# Altium schematic symbol library Schlib1.SchLib: 11 symbols
Pins are listed as number, name and electrical type; pins without a type are passive.

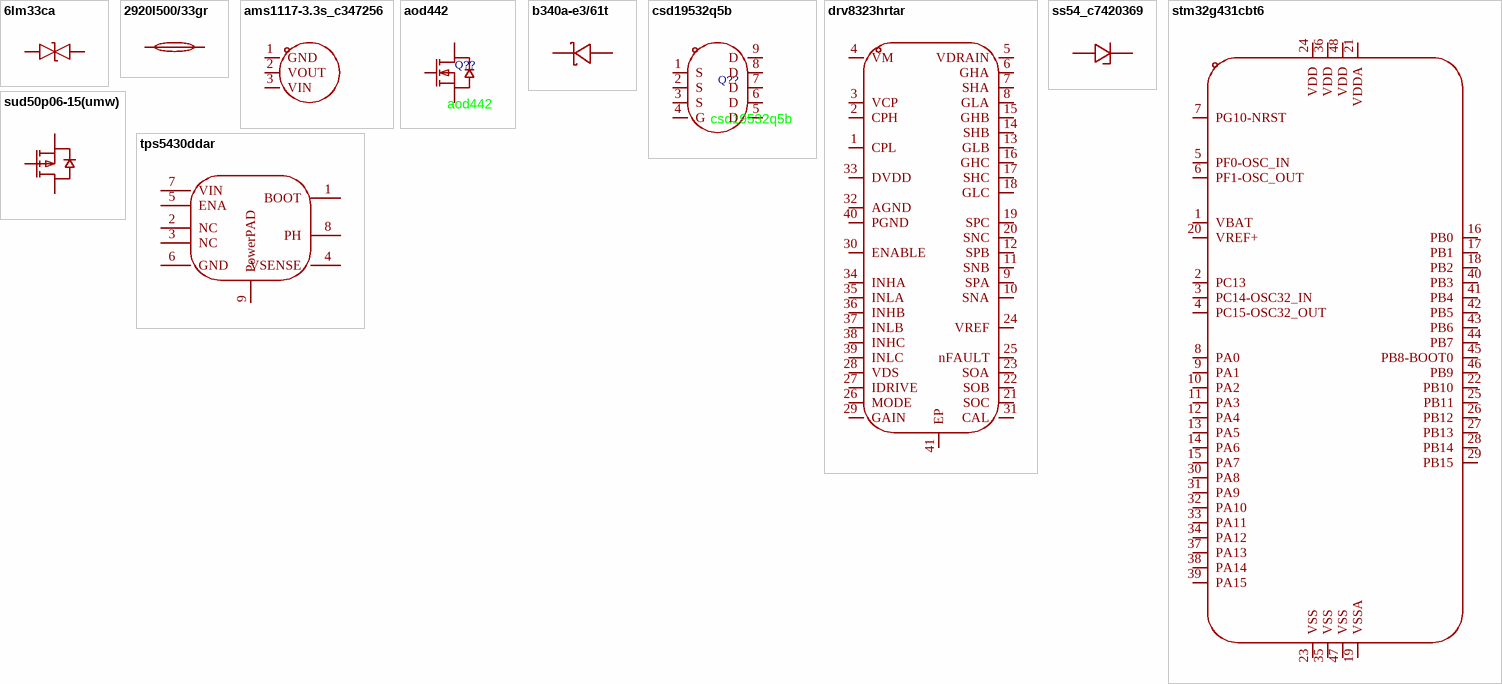
[diagram p0: symbols 6lm33ca to tps5430ddar]

## 6lm33ca
designator D??  (value not drawn)
Manufacturer: Leiditech(雷卯电子); AddInBom: yes; ModelId: 5cfb9fa8428548fca5ac9f51208ec219; ModelName: SMBF_L4.3-W3.6-LS5.3-BI; ModelTransform: 210.63,142.5194,0,0,0,0,0,0,0; Symbol: 6LM33CA; LCSC Part Name: 低Vc瞬态电压抑制器，适用于多种应用，具有玻璃钝化或平面结、出色钳位能力等特性; SupplierPart: C53114808; ManufacturerPart: 6LM33CA; Supplier Footprint: SMB(DO-214AA); JLCPCB Part Class: Extended Part; Datasheet: https://item.szlcsc.com/datasheet/6LM33CA/56092828.html; Supplier: LCSC; ConvertToPcb: yes; FootprintName: SMBF_L4.3-W3.6-LS5.3-BI
footprint SMBF_L4.3-W3.6-LS5.3-BI
footprint 6LM33CA (双向TVS)
pins: 1, 2

## 2920l500/33gr
designator F??  (value not drawn)
耐压(Vmax):33V;最大电流(Imax):40A;保持电流(Ihold):5A;跳闸电流(Itrip):10A;; Manufacturer: LUTE(陆特); AddInBom: yes; ModelId: c20979b6eed84fe694c25fdbe1326c05; ModelName: F2920-1; ModelTransform: 289.7632,201.5744,0,0,0,0,0,0,0; Voltage - Max: 33V; Current - Max: 40A; Hold Current: 5A; Trip Current: 10A; Power Dissipation: 2.5W; Resistance - Initial (Ri) (Min): 5mΩ; Resistance - Post Trip (R1) (Max): 31mΩ; Time to Trip(Max): 5s; Symbol: 2920L500/33GR; LCSC Part Name: 33V 5.00A 2920 自恢复; SupplierPart: C48985881; ManufacturerPart: 2920L500/33GR; Supplier Footprint: 2920; JLCPCB Part Class: Extended Part; Datasheet: https://item.szlcsc.com/datasheet/2920L500%252F33GR/51318605.html; Supplier: LCSC; ConvertToPcb: yes; FootprintName: F2920; Operating Temperature: -40℃~+85℃
footprint F2920
pins: 1, 2

## ams1117-3.3s_c347256
designator U??  (value not drawn)
输出极性:正极;工作电压:18V;输出电压:3.3V;输出电流:1A;电源纹波抑制比(PSRR):60dB@(120Hz);输出类型:固定;; Manufacturer: UMW(友台半导体); Symbol: AMS1117-3.3_C347256; AddInBom: yes; ModelId: 6db690b7897d4d18a30d90c1b89525ee; ModelName: SOT-89-3_L4.3-W2.5-H1.6-LS4.1-P1.50; ModelTransform: 161.417,169.291,0,180,0,0,-11.808,0,0; Output Configuration: 正极; Voltage - Supply: 18V; Output Voltage: 3.3V; Output Current: 1A; Voltage Dropout: 1.3V@(1A); standby current: 5mA; Noise: 0.003%Vout; Output Type: 固定; Number of Outputs: 1; LCSC Part Name: 3.3V 1A 18V; SupplierPart: C347256; ManufacturerPart: AMS1117-3.3S; Supplier Footprint: SOT-89; JLCPCB Part Class: Extended Part; Datasheet: https://item.szlcsc.com/datasheet/AMS1117-3.3S/323916.html; Supplier: LCSC; ConvertToPcb: yes; FootprintName: SOT-89-3_L4.5-W2.5-P1.50-LS4.2-BR; Power Supply Rejection Ratio (PSRR): 60dB@(120Hz); Features: 过流保护; Operating Temperature: -40℃~+125℃
footprint SOT-89-3_L4.5-W2.5-P1.50-LS4.2-BR
footprint ASM1117-3.3V
pins: 1 GND, 2 VOUT, 3 VIN

## aod442
designator Q??
数量:1个N沟道;漏源电压(Vdss):60V;连续漏极电流(Id):37A;导通电阻(RDS(on)):25mΩ@4.5V,20A;耗散功率(Pd):60W;阈值电压(Vgs(th)):2.7V;; Manufacturer: AOS; AddInBom: yes; ModelId: b30bfce30d0f4a429b5e4d5ada8cad65; ModelName: TO-252-3_L6.5-W5.8-P4.58-BL; ModelTransform: 249.9995,380.57715,0,0,0,0,0,38.779,0; Number: 1个N沟道; Drain to Source Voltage: 60V; Current - Continuous Drain(Id): 37A; Pd - Power Dissipation: 60W; Gate Threshold Voltage (Vgs(th)): 2.7V; Gate Charge(Qg): 68nC@10V; Input Capacitance(Ciss): 2.3nF@30V; Reverse Transfer Capacitance (Crss@Vds): 165pF@30V; Symbol: AOD442; LCSC Part Name: 1个N沟道 耐压:60V 电流:37A; SupplierPart: C87617; ManufacturerPart: AOD442; Supplier Footprint: TO-252-2(DPAK); JLCPCB Part Class: Extended Part; Datasheet: https://item.szlcsc.com/datasheet/AOD442/88795.html; Supplier: LCSC; ConvertToPcb: yes; FootprintName: TO-252-3_L6.5-W5.8-P4.58-BL; RDS(on): 25mΩ@4.5V,20A; Operating Temperature: -55℃~+175℃
footprint TO-252-3_L6.5-W5.8-P4.58-BL
footprint AOD442
pins: 1 G, 2 D, 3 S

## b340a-e3/61t
designator D??  (value not drawn)
正向压降(Vf):550mV@3A;直流反向耐压(Vr):40V;整流电流:3A;; Manufacturer: VISHAY(威世); AddInBom: yes; ModelId: e3551acb3c5a4975a5e9d36087fe1fa2; ModelName: SMA_L4.3-W2.6-LS5.2-RD; ModelTransform: 185.039,102.362,0,0,0,0,0,0,0; Voltage - DC Reverse(Vr): 40V; Current - Rectified: 3A; Reverse Leakage Current (Ir): 500uA@40V; Operating Junction Temperature Range: -65℃~+150℃; Non-Repetitive Peak Forward Surge Current: 65A; Symbol: B340A-E3/61T; LCSC Part Name: 电压:40V 电流:3A; SupplierPart: C15570; ManufacturerPart: B340A-E3/61T; Supplier Footprint: SMA(DO-214AC); JLCPCB Part Class: Extended Part; Datasheet: https://item.szlcsc.com/datasheet/B340A-E3%252F61T/16249.html; Supplier: LCSC; ConvertToPcb: yes; FootprintName: SMA_L4.3-W2.6-LS5.2-RD; Voltage - Forward(Vf@If): 550mV@3A
footprint SMA_L4.3-W2.6-LS5.2-RD
footprint SMA_L4.3-W2.6-LS5.2-RD
pins: 1 K, 2 A

## csd19532q5b
designator Q??
数量:-;漏源电压(Vdss):100V;连续漏极电流(Id):100A;导通电阻(RDS(on)):4.6mΩ@6V,17A;耗散功率(Pd):195W;阈值电压(Vgs(th)):2.6V;; Manufacturer: TI(德州仪器); AddInBom: yes; ModelId: 37244444be64495d8a7e9078c2813e17; ModelName: SON-8_L5.0-W6.0-P1.27-BL-1; ModelTransform: 204.724,240.157,0,0,0,0,0,1.968,0; Drain to Source Voltage: 100V; Current - Continuous Drain(Id): 100A; Pd - Power Dissipation: 195W; Gate Threshold Voltage (Vgs(th)): 2.6V; Gate Charge(Qg): 48nC@10V; Input Capacitance(Ciss): 4.81nF@50V; Reverse Transfer Capacitance (Crss@Vds): 18pF@50V; Type: N沟道; Output Capacitance(Coss): 706pF; Symbol: CSD19532Q5B; LCSC Part Name: 耐压:100V 电流:100A; SupplierPart: C473333; ManufacturerPart: CSD19532Q5B; Supplier Footprint: SON-8(5x6); JLCPCB Part Class: Extended Part; Datasheet: https://www.ti.com/cn/lit/gpn/csd19532q5b; Supplier: LCSC; ConvertToPcb: yes; FootprintName: SON-8_L5.0-W6.0-P1.27-BL-1; Number: -; RDS(on): 4.6mΩ@6V,17A; Operating Temperature: -55℃~+150℃; Configuration: -
footprint SON-8_L5.0-W6.0-P1.27-BL-1
footprint CSD19532Q5B (N-Mos)
pins: 1 S, 2 S, 3 S, 4 G, 5 D, 6 D, 7 D, 8 D, 9 D

## drv8323hrtar
designator U??  (value not drawn)
DRV8323 具有电流分流放大器的最大 65V 三相智能栅极驱动器; Manufacturer: TI(德州仪器); AddInBom: yes; ModelId: 462395c9b4394dd8ac3680d491deb075; ModelName: QFN-40_L6.0-W6.0-H0.8-P0.50; ModelTransform: 237.007,237.007,0,90,0,0,-0.003,0.003,0; Drive Type: 三相; Integrated FETs: 否; Number of Half Bridges: 3; Quiescent Current(Iq): 12uA; Interface: SPI; Symbol: DRV8323HRTAR; LCSC Part Name: 5mA 无刷直流BLDC电机驱动芯片 60V; SupplierPart: C701783; ManufacturerPart: DRV8323HRTAR; Supplier Footprint: WQFN-40-EP(6x6); JLCPCB Part Class: Extended Part; Datasheet: https://www.ti.com/cn/lit/gpn/drv8323; Supplier: LCSC; ConvertToPcb: yes; FootprintName: QFN-40_L6.0-W6.0-P0.50-BL-EP4.5; Output Current: -; Peak Current: -; Voltage - Supply: -; RDS(on): -; Operating Temperature: -40℃~+125℃
footprint QFN-40_L6.0-W6.0-P0.50-BL-EP4.5
footprint DRV8323HRTAR
pins: 1 CPL, 2 CPH, 3 VCP, 4 VM, 5 VDRAIN, 6 GHA, 7 SHA, 8 GLA, 9 SPA, 10 SNA, 11 SNB, 12 SPB, 13 GLB, 14 SHB, 15 GHB, 16 GHC, 17 SHC, 18 GLC, 19 SPC, 20 SNC, 21 SOC, 22 SOB, 23 SOA, 24 VREF, 25 nFAULT, 26 MODE, 27 IDRIVE, 28 VDS, 29 GAIN, 30 ENABLE, 31 CAL, 32 AGND, 33 DVDD, 34 INHA, 35 INLA, 36 INHB, 37 INLB, 38 INHC, 39 INLC, 40 PGND, 41 EP

## ss54_c7420369
designator D??  (value not drawn)
二极管配置:独立式;正向压降(Vf):550mV@5A;直流反向耐压(Vr):40V;整流电流:5A;; Manufacturer: R+O(宏嘉诚); ManufacturerPart: SS54; AddInBom: yes; ModelId: 7e24bebe6cd74171ae8c9de6fc5b78aa; ModelName: SMA_L4.3-W2.6-LS5.0-FD; ModelTransform: 198.4248,103.5431,0,180,0,0,-0.001,0,0; Diode Configuration: 独立式; Voltage - DC Reverse(Vr): 40V; Current - Rectified: 5A; Reverse Leakage Current (Ir): 50uA@40V; Operating Junction Temperature Range: -55℃~+125℃; Non-Repetitive Peak Forward Surge Current: 120A; Symbol: SS54_C7420369; LCSC Part Name: 电压:40V 电流:5A; SupplierPart: C7420369; Supplier Footprint: SMA(DO-214AC); JLCPCB Part Class: Extended Part; Datasheet: https://item.szlcsc.com/datasheet/SS54/8397191.html; Supplier: LCSC; ConvertToPcb: yes; FootprintName: SMA_L4.3-W2.6-LS5.0-FD; Voltage - Forward(Vf@If): 550mV@5A
footprint SMA_L4.3-W2.6-LS5.0-FD
footprint SMA_L4.3-W2.6-LS5.0-FD
pins: 1 A, 2 K

## stm32g431cbt6
designator U??  (value not drawn)
CPU内核:ARM-M系列;CPU最大主频:170MHz;应用领域:-;; Manufacturer: ST(意法半导体); AddInBom: yes; ModelId: 093be70396ff421eb2cdb946d5311efc; ModelName: LQFP-48_L7.0-W7.0-H1.4-LS9.0-P0.50; ModelTransform: 354.331,354.331,0,0,0,0,0,0,0; CPU Maximum Speed: 170MHz; Program Storage Size: 128KB; Program Memory Type: FLASH; Number of I/O: 38; ADC (Bit): 12bit; Voltage - Supply: 1.71V~3.6V; Symbol: STM32G431CBT6; LCSC Part Name: 带DSP和FPU的170MHz主流ARM Cortex-M4 MCU，具有128 KB Flash存储器、数学加速器和中等模拟电平集成; SupplierPart: C529355; ManufacturerPart: STM32G431CBT6; Supplier Footprint: LQFP-48(7x7); JLCPCB Part Class: Extended Part; Datasheet: https://item.szlcsc.com/datasheet/STM32G431CBT6/549633.html; Supplier: LCSC; ConvertToPcb: yes; FootprintName: LQFP-48_L7.0-W7.0-P0.50-LS9.0-BL; CPU Core: ARM-M系列; DAC (Bit): 12bit; Applications: -
footprint LQFP-48_L7.0-W7.0-P0.50-LS9.0-BL
footprint STM32G431CBT6
pins: 1 VBAT, 2 PC13, 3 PC14-OSC32_IN, 4 PC15-OSC32_OUT, 5 PF0-OSC_IN, 6 PF1-OSC_OUT, 7 PG10-NRST, 8 PA0, 9 PA1, 10 PA2, 11 PA3, 12 PA4, 13 PA5, 14 PA6, 15 PA7, 16 PB0, 17 PB1, 18 PB2, 19 VSSA, 20 VREF+, 21 VDDA, 22 PB10, 23 VSS, 24 VDD, 25 PB11, 26 PB12, 27 PB13, 28 PB14, 29 PB15, 30 PA8, 31 PA9, 32 PA10, 33 PA11, 34 PA12, 35 VSS, 36 VDD, 37 PA13, 38 PA14, 39 PA15, 40 PB3, 41 PB4, 42 PB5, 43 PB6, 44 PB7, 45 PB8-BOOT0, 46 PB9, 47 VSS, 48 VDD

## sud50p06-15(umw)
designator Q??  (value not drawn)
漏源电压(Vdss):60V;连续漏极电流(Id):50A;导通电阻(RDS(on)):12mΩ@10V;耗散功率(Pd):2.5W;阈值电压(Vgs(th)):1.8V@250uA;; Manufacturer: UMW(友台半导体); AddInBom: yes; ModelId: ce57f84d66384067af8a68020b6de06d; ModelName: TO-252-2L-3P_L6.6-W6.1-H2.3-LS10.1-P4.6; ModelTransform: 259.842,390.52442,0,270,0,0,39.372,0.002,0; Drain to Source Voltage: 60V; Current - Continuous Drain(Id): 50A; Pd - Power Dissipation: 2.5W; Gate Charge(Qg): 110nC@10V; Input Capacitance(Ciss): 4.95nF@25V; Reverse Transfer Capacitance (Crss@Vds): 405pF@25V; Type: P沟道; Symbol: SUD50P06-15(UMW); LCSC Part Name: P沟道 耐压:60V 电流:50A; SupplierPart: C7503186; ManufacturerPart: SUD50P06-15(UMW); Supplier Footprint: TO-252; JLCPCB Part Class: Extended Part; Datasheet: https://item.szlcsc.com/datasheet/SUD50P06-15(UMW)/8592057.html; Supplier: LCSC; ConvertToPcb: yes; FootprintName: TO-252-2_L6.6-W6.1-P4.58-LS9.9-TL; RDS(on): 12mΩ@10V; Gate Threshold Voltage (Vgs(th)): 1.8V@250uA; Operating Temperature: -55℃~+150℃
footprint TO-252-2_L6.6-W6.1-P4.58-LS9.9-TL
footprint SUD50P06-15 (P-MOS)
pins: 1 G, 2 D, 3 S

## tps5430ddar
designator U??  (value not drawn)
功能类型:降压型;工作电压:5.5V~36V;输出电压:1.221V~32.04V;输出电流:3A;输出类型:可调;; Manufacturer: TI(德州仪器); AddInBom: yes; ModelId: 821ddb58f3244ffb9a5d6f8174c5b14e; ModelName: ESOP-8_L4.9-W3.9-P1.27-LS6.0-TL-EP; ModelTransform: 236.22,192.913,0,0,0,0,0,0,0; Function: 降压型; Output Current: 3A; Frequency - Switching: 500kHz; Synchronous Rectifier: 否; Number of Outputs: 1; Topology: 降压式; Quiescent Current: 4.4mA; Switch tube (built-in/external): 内置; Output Type: 可调; Symbol: TPS5430DDAR; LCSC Part Name: 降压型 3A 5.5V~36V; SupplierPart: C9864; ManufacturerPart: TPS5430DDAR; Supplier Footprint: SOIC-8-EP; JLCPCB Part Class: Basic Part; Datasheet: https://www.ti.com/cn/lit/ds/symlink/tps5430.pdf; Supplier: LCSC; ConvertToPcb: yes; FootprintName: ESOP-8_L4.9-W3.9-P1.27-LS6.0-TL-EP; Voltage - Supply: 5.5V~36V; Output Voltage: 1.221V~32.04V; Operating Temperature: -40℃~+125℃@(TJ); Features: 逐波限流；过流保护；打嗝限流
footprint ESOP-8_L4.9-W3.9-P1.27-LS6.0-TL-EP
pins: 1 BOOT, 2 NC, 3 NC, 4 VSENSE, 5 ENA, 6 GND, 7 VIN, 8 PH, 9 PowerPAD